# Altium footprint library Pin Header.PcbLib: 15 footprints
Each footprint in its own frame and in the unit in brackets; x right, y up, seen from the top. Pads: shape width x height; smd on the part's side, far side on the other; paste and mask are expansions set on the pad; w line width, h text height; cw(c..) or ccw(c..) is an arc to the next point about the centre after c.
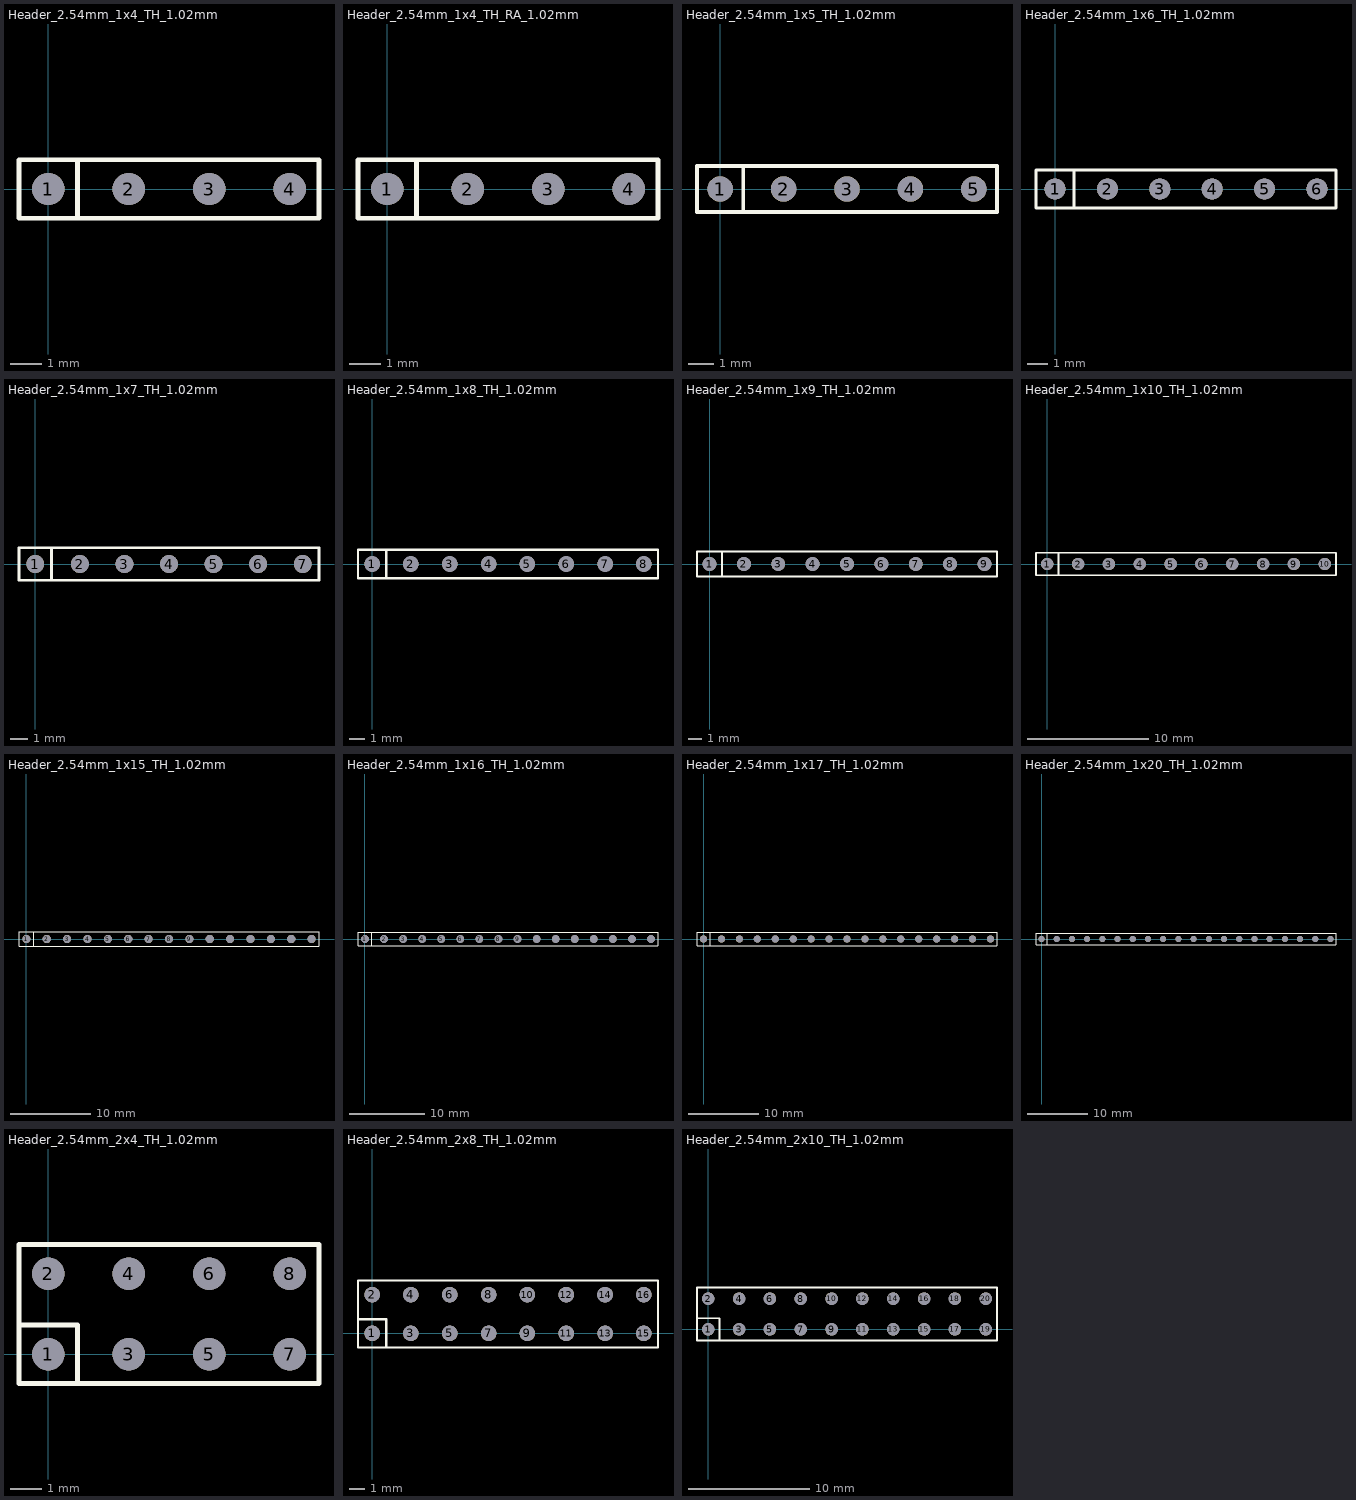
[diagram p0: the footprints below, top view; thin cyan lines are the x and y axes]

## Header_2.54mm_1x4_TH_1.02mm [mm] "2.54间距排针 1x4直插封装 孔径1.02"
pads (4):
  round 1.02 hole 1.02 mask-2539.97: 1(0,0) 2(2.54,0) 3(5.08,0) 4(7.62,0)
Top Overlay:
  lines w0.15: 0.925,-0.925 0.925,0.925 ; -0.925,-0.925 8.545,-0.925 8.545,0.925 -0.925,0.925 -0.925,-0.925
Top Solder:
  circle w0.65: c2.54,0 r0.325
  circle w0.65: c7.62,0 r0.325
  circle w0.65: c5.08,0 r0.325
  region: -0.65,-0.65 -0.65,0.65 0.65,0.65 0.65,-0.65
3D body "Pin Header 4 Way.STEP": height 5.96, standoff -2.92, extent -1.27,-1.27 8.89,1.27

## Header_2.54mm_1x4_TH_RA_1.02mm [mm] "2.54间距排针 1x4直插封装 孔径1.02"
pads (4):
  round 1.02 hole 1.02 mask-2539.97: 1(0,0) 2(2.54,0) 3(5.08,0) 4(7.62,0)
Top Overlay:
  lines w0.15: 0.925,-0.925 0.925,0.925 ; -0.925,-0.925 8.545,-0.925 8.545,0.925 -0.925,0.925 -0.925,-0.925
Top Solder:
  circle w0.65: c2.54,0 r0.325
  circle w0.65: c7.62,0 r0.325
  circle w0.65: c5.08,0 r0.325
  region: -0.65,-0.65 -0.65,0.65 0.65,0.65 0.65,-0.65
3D body "Right Angel Pin Header 4 Way.STEP": height 4.35, standoff -2.98, extent -1.27,-7 8.89,1.27

## Header_2.54mm_1x5_TH_1.02mm [mm] "2.54间距排针 1x5直插封装 孔径1.02"
pads (5):
  round 1.02 hole 1.02 mask-2539.97: 1(0,0) 2(2.54,0) 3(5.08,0) 4(7.62,0) 5(10.16,0)
Top Overlay:
  lines w0.15: 0.925,-0.925 0.925,0.925 ; -0.925,-0.925 -0.925,0.925 11.085,0.925 11.085,-0.925 -0.925,-0.925
Top Solder:
  region: -0.65,-0.65 -0.65,0.65 0.65,0.65 0.65,-0.65
  circle w0.65: c5.08,0 r0.325
  circle w0.65: c7.62,0 r0.325
  circle w0.65: c2.54,0 r0.325
  circle w0.65: c10.16,0 r0.325
3D body "Pin Header 5 Way.STEP": height 5.96, standoff -2.92, extent -1.27,-1.27 11.43,1.27

## Header_2.54mm_1x6_TH_1.02mm [mm] "2.54间距排针 1x6直插封装 孔径1.02"
pads (6):
  round 1.02 hole 1.02 mask-2539.97: 1(0,0) 2(2.54,0) 3(5.08,0) 4(7.62,0) 5(10.16,0) 6(12.7,0)
Top Overlay:
  lines w0.15: 0.925,-0.925 0.925,0.925 ; -0.925,-0.925 13.625,-0.925 13.625,0.925 -0.925,0.925 -0.925,-0.925
Top Solder:
  circle w0.65: c10.16,0 r0.325
  circle w0.65: c2.54,0 r0.325
  circle w0.65: c7.62,0 r0.325
  circle w0.65: c5.08,0 r0.325
  region: -0.65,-0.65 -0.65,0.65 0.65,0.65 0.65,-0.65
  circle w0.65: c12.7,0 r0.325
3D body "Pin Header 6 Way.STEP": height 5.96, standoff -2.92, extent -1.27,-1.27 13.97,1.27

## Header_2.54mm_1x7_TH_1.02mm [mm] "2.54间距排针 1x7直插封装 孔径1.02"
pads (7):
  round 1.02 hole 1.02 mask-2539.97: 1(0,0) 2(2.54,0) 3(5.08,0) 4(7.62,0) 5(10.16,0) 6(12.7,0) 7(15.24,0)
Top Overlay:
  lines w0.15: 0.925,-0.925 0.925,0.925 ; -0.925,-0.925 16.165,-0.925 16.165,0.925 -0.925,0.925 -0.925,-0.925
Top Solder:
  circle w0.65: c15.24,0 r0.325
  circle w0.65: c10.16,0 r0.325
  circle w0.65: c2.54,0 r0.325
  circle w0.65: c7.62,0 r0.325
  circle w0.65: c5.08,0 r0.325
  region: -0.65,-0.65 -0.65,0.65 0.65,0.65 0.65,-0.65
  circle w0.65: c12.7,0 r0.325
3D body "Pin Header 7 Way.STEP": height 5.96, standoff -2.92, extent -1.27,-1.27 16.51,1.27

## Header_2.54mm_1x8_TH_1.02mm [mm] "2.54间距排针 1x8直插封装 孔径1.02"
pads (8):
  round 1.02 hole 1.02 mask-2539.97: 1(0,0) 2(2.54,0) 3(5.08,0) 4(7.62,0) 5(10.16,0) 6(12.7,0) 7(15.24,0) 8(17.78,0)
Top Overlay:
  lines w0.15: 0.925,-0.925 0.925,0.925 ; -0.925,-0.925 -0.925,0.925 18.705,0.925 18.705,-0.925 -0.925,-0.925
Top Solder:
  circle w0.65: c15.24,0 r0.325
  circle w0.65: c10.16,0 r0.325
  circle w0.65: c2.54,0 r0.325
  circle w0.65: c7.62,0 r0.325
  circle w0.65: c5.08,0 r0.325
  region: -0.65,-0.65 -0.65,0.65 0.65,0.65 0.65,-0.65
  circle w0.65: c12.7,0 r0.325
  circle w0.65: c17.78,0 r0.325
3D body "Pin Header 8 Way.STEP": height 5.96, standoff -2.92, extent -1.27,-1.27 19.05,1.27

## Header_2.54mm_1x9_TH_1.02mm [mm] "2.54间距排针 1x9直插封装 孔径1.02"
pads (9):
  round 1.02 hole 1.02 mask-2539.97: 1(0,0) 2(2.54,0) 3(5.08,0) 4(7.62,0) 5(10.16,0) 6(12.7,0) 7(15.24,0) 8(17.78,0) 9(20.32,0)
Top Overlay:
  lines w0.15: 0.925,-0.925 0.925,0.925 ; -0.925,-0.925 -0.925,0.925 21.245,0.925 21.245,-0.925 -0.925,-0.925
Top Solder:
  circle w0.65: c20.32,0 r0.325
  circle w0.65: c15.24,0 r0.325
  circle w0.65: c10.16,0 r0.325
  circle w0.65: c2.54,0 r0.325
  circle w0.65: c7.62,0 r0.325
  circle w0.65: c5.08,0 r0.325
  region: -0.65,-0.65 -0.65,0.65 0.65,0.65 0.65,-0.65
  circle w0.65: c12.7,0 r0.325
  circle w0.65: c17.78,0 r0.325
3D body "Pin Header 9 Way.STEP": height 5.96, standoff -2.92, extent -1.27,-1.27 21.59,1.27

## Header_2.54mm_1x10_TH_1.02mm [mm] "2.54间距排针 1x10直插封装 孔径1.02"
pads (10):
  round 1.02 hole 1.02 mask-2539.97: 1(0,0) 2(2.54,0) 3(5.08,0) 4(7.62,0) 5(10.16,0) 6(12.7,0) 7(15.24,0) 8(17.78,0) 9(20.32,0) 10(22.86,0)
Top Overlay:
  lines w0.15: 0.925,-0.925 0.925,0.925 ; -0.925,-0.925 23.785,-0.925 23.785,0.925 -0.925,0.925 -0.925,-0.925
Top Solder:
  circle w0.65: c22.86,0 r0.325
  circle w0.65: c17.78,0 r0.325
  circle w0.65: c12.7,0 r0.325
  region: -0.65,-0.65 -0.65,0.65 0.65,0.65 0.65,-0.65
  circle w0.65: c5.08,0 r0.325
  circle w0.65: c7.62,0 r0.325
  circle w0.65: c2.54,0 r0.325
  circle w0.65: c10.16,0 r0.325
  circle w0.65: c15.24,0 r0.325
  circle w0.65: c20.32,0 r0.325
3D body "Pin Header 10 Way.STEP": height 5.96, standoff -2.92, extent -1.27,-1.27 24.13,1.27

## Header_2.54mm_1x15_TH_1.02mm [mm] "2.54间距排针 1x15直插封装 孔径1.02"
pads (15):
  round 1.02 hole 1.02 mask-2539.97: 1(0,0) 2(2.54,0) 3(5.08,0) 4(7.62,0) 5(10.16,0) 6(12.7,0) 7(15.24,0) 8(17.78,0) 9(20.32,0) 10(22.86,0) 11(25.4,0) 12(27.94,0) 13(30.48,0) 14(33.02,0) 15(35.56,0)
Top Overlay:
  lines w0.15: 0.925,-0.925 0.925,0.925 ; -0.925,-0.925 -0.925,0.925 36.485,0.925 36.485,-0.925 -0.925,-0.925
Top Solder:
  circle w0.65: c30.48,0 r0.325
  circle w0.65: c33.02,0 r0.325
  circle w0.65: c27.94,0 r0.325
  circle w0.65: c35.56,0 r0.325
  circle w0.65: c25.4,0 r0.325
  circle w0.65: c22.86,0 r0.325
  circle w0.65: c20.32,0 r0.325
  circle w0.65: c15.24,0 r0.325
  circle w0.65: c10.16,0 r0.325
  circle w0.65: c2.54,0 r0.325
  circle w0.65: c7.62,0 r0.325
  circle w0.65: c5.08,0 r0.325
  region: -0.65,-0.65 -0.65,0.65 0.65,0.65 0.65,-0.65
  circle w0.65: c12.7,0 r0.325
  circle w0.65: c17.78,0 r0.325
Bottom Solder:
  circle w0.51: c25.4,0 r0.255
3D body "Pin Header 15 Way.STEP": height 5.96, standoff -2.92, extent -1.27,-1.27 36.83,1.27

## Header_2.54mm_1x16_TH_1.02mm [mm] "2.54间距排针 1x16直插封装 孔径1.02"
pads (16):
  round 1.02 hole 1.02 mask-2539.97: 1(0,0) 2(2.54,0) 3(5.08,0) 4(7.62,0) 5(10.16,0) 6(12.7,0) 7(15.24,0) 8(17.78,0) 9(20.32,0) 10(22.86,0) 11(25.4,0) 12(27.94,0) 13(30.48,0) 14(33.02,0) 15(35.56,0) 16(38.1,0)
Top Overlay:
  lines w0.15: 0.925,-0.925 0.925,0.925 ; -0.925,-0.925 -0.925,0.925 39.025,0.925 39.025,-0.925 -0.925,-0.925
Top Solder:
  circle w0.65: c38.1,0 r0.325
  circle w0.65: c30.48,0 r0.325
  circle w0.65: c33.02,0 r0.325
  circle w0.65: c27.94,0 r0.325
  circle w0.65: c35.56,0 r0.325
  circle w0.65: c25.4,0 r0.325
  circle w0.65: c22.86,0 r0.325
  circle w0.65: c20.32,0 r0.325
  circle w0.65: c15.24,0 r0.325
  circle w0.65: c10.16,0 r0.325
  circle w0.65: c2.54,0 r0.325
  circle w0.65: c7.62,0 r0.325
  circle w0.65: c5.08,0 r0.325
  region: -0.65,-0.65 -0.65,0.65 0.65,0.65 0.65,-0.65
  circle w0.65: c12.7,0 r0.325
  circle w0.65: c17.78,0 r0.325
Bottom Solder:
  circle w0.51: c25.4,0 r0.255
3D body "Pin Header 16 Way.STEP": height 5.96, standoff -2.92, extent -1.27,-1.27 39.37,1.27

## Header_2.54mm_1x17_TH_1.02mm [mm] "2.54间距排针 1x17直插封装 孔径1.02"
pads (17):
  round 1.02 hole 1.02 mask-2539.97: 1(0,0) 2(2.54,0) 3(5.08,0) 4(7.62,0) 5(10.16,0) 6(12.7,0) 7(15.24,0) 8(17.78,0) 9(20.32,0) 10(22.86,0) 11(25.4,0) 12(27.94,0) 13(30.48,0) 14(33.02,0) 15(35.56,0) 16(38.1,0) 17(40.64,0)
Top Overlay:
  lines w0.15: 0.925,-0.925 0.925,0.925 ; -0.925,-0.925 -0.925,0.925 41.565,0.925 41.565,-0.925 -0.925,-0.925
Top Solder:
  circle w0.65: c38.1,0 r0.325
  circle w0.65: c30.48,0 r0.325
  circle w0.65: c33.02,0 r0.325
  circle w0.65: c27.94,0 r0.325
  circle w0.65: c35.56,0 r0.325
  circle w0.65: c25.4,0 r0.325
  circle w0.65: c22.86,0 r0.325
  circle w0.65: c20.32,0 r0.325
  circle w0.65: c15.24,0 r0.325
  circle w0.65: c10.16,0 r0.325
  circle w0.65: c2.54,0 r0.325
  circle w0.65: c7.62,0 r0.325
  circle w0.65: c5.08,0 r0.325
  region: -0.65,-0.65 -0.65,0.65 0.65,0.65 0.65,-0.65
  circle w0.65: c12.7,0 r0.325
  circle w0.65: c17.78,0 r0.325
  circle w0.65: c40.64,0 r0.325
Bottom Solder:
  circle w0.51: c25.4,0 r0.255
3D body "Pin Header 17 Way.STEP": height 5.96, standoff -2.92, extent -1.27,-1.27 41.91,1.27

## Header_2.54mm_1x20_TH_1.02mm [mm] "2.54间距排针 1x20直插封装 孔径1.02"
pads (20):
  round 1.02 hole 1.02 mask-2539.97: 1(0,0) 2(2.54,0) 3(5.08,0) 4(7.62,0) 5(10.16,0) 6(12.7,0) 7(15.24,0) 8(17.78,0) 9(20.32,0) 10(22.86,0) 11(25.4,0) 12(27.94,0) 13(30.48,0) 14(33.02,0) 15(35.56,0) 16(38.1,0) 17(40.64,0) 18(43.18,0) 19(45.72,0) 20(48.26,0)
Top Overlay:
  lines w0.15: 0.925,-0.925 0.925,0.925 ; -0.925,-0.925 49.185,-0.925 49.185,0.925 -0.925,0.925 -0.925,-0.925
Top Solder:
  circle w0.65: c17.78,0 r0.325
  circle w0.65: c12.7,0 r0.325
  region: -0.65,-0.65 -0.65,0.65 0.65,0.65 0.65,-0.65
  circle w0.65: c5.08,0 r0.325
  circle w0.65: c7.62,0 r0.325
  circle w0.65: c2.54,0 r0.325
  circle w0.65: c10.16,0 r0.325
  circle w0.65: c15.24,0 r0.325
  circle w0.65: c20.32,0 r0.325
  circle w0.65: c22.86,0 r0.325
  circle w0.65: c40.64,0 r0.325
  circle w0.65: c43.18,0 r0.325
  circle w0.65: c48.26,0 r0.325
  circle w0.65: c25.4,0 r0.325
  circle w0.65: c35.56,0 r0.325
  circle w0.65: c27.94,0 r0.325
  circle w0.65: c33.02,0 r0.325
  circle w0.65: c30.48,0 r0.325
  circle w0.65: c45.72,0 r0.325
  circle w0.65: c38.1,0 r0.325
Bottom Solder:
  circle w0.51: c25.4,0 r0.255
3D body "Pin Header 20 Way.STEP": height 5.96, standoff -2.92, extent -1.27,-1.27 49.53,1.27

## Header_2.54mm_2x4_TH_1.02mm [mm] "2.54间距排针 2x4直插封装 孔径1.02"
pads (8):
  round 1.02 hole 1.02 mask-2539.97: 1(0,0) 2(0,2.54) 3(2.54,0) 4(2.54,2.54) 5(5.08,0) 6(5.08,2.54) 7(7.62,0) 8(7.62,2.54)
Top Overlay:
  lines w0.15: -0.925,0.925 0.925,0.925 0.925,-0.925 ; -0.925,-0.925 8.545,-0.925 8.545,3.465 -0.925,3.465 -0.925,-0.925
Top Solder:
  circle w0.65: c2.54,2.54 r0.325
  circle w0.65: c7.62,2.54 r0.325
  circle w0.65: c5.08,2.54 r0.325
  region: -0.65,1.89 -0.65,3.19 0.65,3.19 0.65,1.89
  circle w0.65: c2.54,0 r0.325
  circle w0.65: c7.62,0 r0.325
  circle w0.65: c5.08,0 r0.325
  region: -0.65,-0.65 -0.65,0.65 0.65,0.65 0.65,-0.65
3D body "Pin Header 2x4 Way.STEP": height 5.96, standoff -2.92, extent -1.27,-1.27 8.89,3.81

## Header_2.54mm_2x8_TH_1.02mm [mm] "2.54间距排针 2x8直插封装 孔径1.02"
pads (16):
  round 1.02 hole 1.02 mask-2539.97: 1(0,0) 2(0,2.54) 3(2.54,0) 4(2.54,2.54) 5(5.08,0) 6(5.08,2.54) 7(7.62,0) 8(7.62,2.54) 9(10.16,0) 10(10.16,2.54) 11(12.7,0) 12(12.7,2.54) 13(15.24,0) 14(15.24,2.54) 15(17.78,0) 16(17.78,2.54)
Top Overlay:
  lines w0.15: -0.925,0.925 0.925,0.925 0.925,-0.925 ; -0.925,-0.925 -0.925,3.465 18.705,3.465 18.705,-0.925 -0.925,-0.925
Top Solder:
  region: -0.65,-0.65 -0.65,0.65 0.65,0.65 0.65,-0.65
  circle w0.65: c5.08,0 r0.325
  circle w0.65: c7.62,0 r0.325
  circle w0.65: c2.54,0 r0.325
  circle w0.65: c0,2.54 r0.325
  circle w0.65: c5.08,2.54 r0.325
  circle w0.65: c7.62,2.54 r0.325
  circle w0.65: c2.54,2.54 r0.325
  circle w0.65: c10.16,0 r0.325
  circle w0.65: c15.24,0 r0.325
  circle w0.65: c17.78,0 r0.325
  circle w0.65: c12.7,0 r0.325
  circle w0.65: c10.16,2.54 r0.325
  circle w0.65: c15.24,2.54 r0.325
  circle w0.65: c17.78,2.54 r0.325
  circle w0.65: c12.7,2.54 r0.325
Bottom Solder:
  circle w0.51: c0,2.54 r0.255
  circle w0.51: c10.16,0 r0.255
  circle w0.51: c10.16,2.54 r0.255
3D body "Pin Header 2x8 Way.STEP": height 5.96, standoff -2.92, extent -1.27,-1.27 19.05,3.81

## Header_2.54mm_2x10_TH_1.02mm [mm] "2.54间距排针 2x10直插封装 孔径1.02"
pads (20):
  round 1.02 hole 1.02 mask-2539.97: 1(0,0) 2(0,2.54) 3(2.54,0) 4(2.54,2.54) 5(5.08,0) 6(5.08,2.54) 7(7.62,0) 8(7.62,2.54) 9(10.16,0) 10(10.16,2.54) 11(12.7,0) 12(12.7,2.54) 13(15.24,0) 14(15.24,2.54) 15(17.78,0) 16(17.78,2.54) 17(20.32,0) 18(20.32,2.54) 19(22.86,0) 20(22.86,2.54)
Top Overlay:
  lines w0.15: -0.925,0.925 0.925,0.925 0.925,-0.925 ; -0.925,-0.925 23.785,-0.925 23.785,3.465 -0.925,3.465 -0.925,-0.925
Top Solder:
  circle w0.65: c12.7,2.54 r0.325
  circle w0.65: c17.78,2.54 r0.325
  circle w0.65: c15.24,2.54 r0.325
  circle w0.65: c10.16,2.54 r0.325
  circle w0.65: c12.7,0 r0.325
  circle w0.65: c17.78,0 r0.325
  circle w0.65: c15.24,0 r0.325
  circle w0.65: c10.16,0 r0.325
  circle w0.65: c2.54,2.54 r0.325
  circle w0.65: c7.62,2.54 r0.325
  circle w0.65: c5.08,2.54 r0.325
  circle w0.65: c0,2.54 r0.325
  circle w0.65: c2.54,0 r0.325
  circle w0.65: c7.62,0 r0.325
  circle w0.65: c5.08,0 r0.325
  region: -0.65,-0.65 -0.65,0.65 0.65,0.65 0.65,-0.65
  circle w0.65: c22.86,2.54 r0.325
  circle w0.65: c20.32,2.54 r0.325
  circle w0.65: c22.86,0 r0.325
  circle w0.65: c20.32,0 r0.325
Bottom Solder:
  circle w0.51: c10.16,2.54 r0.255
  circle w0.51: c10.16,0 r0.255
  circle w0.51: c0,2.54 r0.255
3D body "Pin Header 2x10 Way.STEP": height 5.96, standoff -2.92, extent -1.27,-1.27 24.13,3.81